# EAGLE library part CD4021 (library jack-eagle)
cd4021 shift register
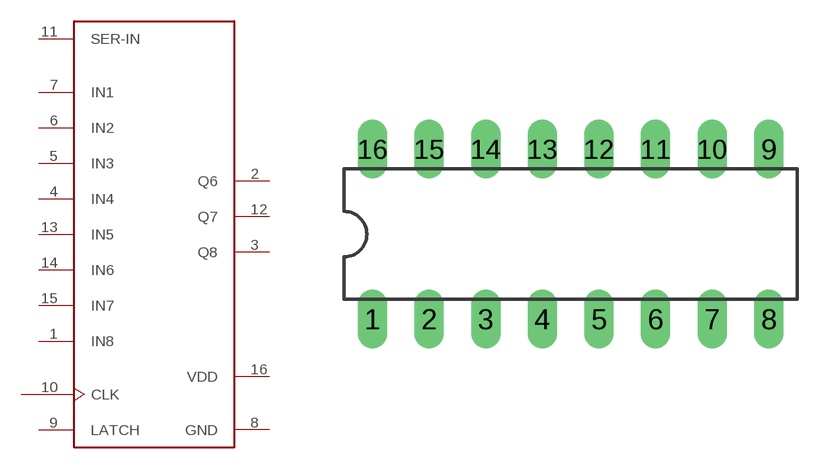
[diagram p2: symbol with the pads of DIL16; footprint DIL16]

Designator prefix -

## CD4021  [DIL16]
1  IN8
2  Q6
3  Q8
4  IN4
5  IN3
6  IN2
7  IN1
8  GND
9  LATCH
10  CLK
11  SER-IN
12  Q7
13  IN5
14  IN6
15  IN7
16  VDD

## Footprint DIL16 (pad centres in mm)
Dual In Line Package
drill 0.813 long: 1 -8.89,-3.81; 2 -6.35,-3.81; 3 -3.81,-3.81; 4 -1.27,-3.81; 5 1.27,-3.81; 6 3.81,-3.81; 7 6.35,-3.81; 8 8.89,-3.81; 9 8.89,3.81; 10 6.35,3.81; 11 3.81,3.81; 12 1.27,3.81; 13 -1.27,3.81; 14 -3.81,3.81; 15 -6.35,3.81; 16 -8.89,3.81